# EAGLE library part BQ76200 (library misc)
High-voltage battery pack front-end charge/discharge high-side NFET driver.
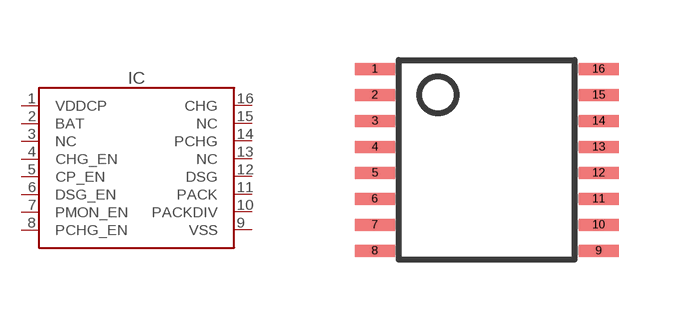
[diagram p9: symbol with the pads of TSSOP16; footprint TSSOP16]

Designator prefix IC

## BQ76200 (LCSC#: C2868795; MANF: Texas Instruments; MANF#: BQ76200PW)  [TSSOP16]
1  VDDCP
2  BAT
3  NC
4  CHG_EN
5  CP_EN
6  DSG_EN
7  PMON_EN
8  PCHG_EN
9  VSS
10  PACKDIV
11  PACK
12  DSG
13  NC
14  PCHG
15  NC
16  CHG

## Footprint TSSOP16 (pad centres in mm)
Thin Shrink Small Outline Plastic 16 3D model <https://grabcad.com/library/msop-and-tssop-packages-1>
smd 1 x 0.3: 1 -2.8,2.275; 2 -2.8,1.625; 3 -2.8,0.975; 4 -2.8,0.325; 5 -2.8,-0.325; 6 -2.8,-0.975; 7 -2.8,-1.625; 8 -2.8,-2.275; 9 2.8,-2.275; 10 2.8,-1.625; 11 2.8,-0.975; 12 2.8,-0.325; 13 2.8,0.325; 14 2.8,0.975; 15 2.8,1.625; 16 2.8,2.275